# EAGLE library part OLED-128*64-30P (library moudle-new)
308020008
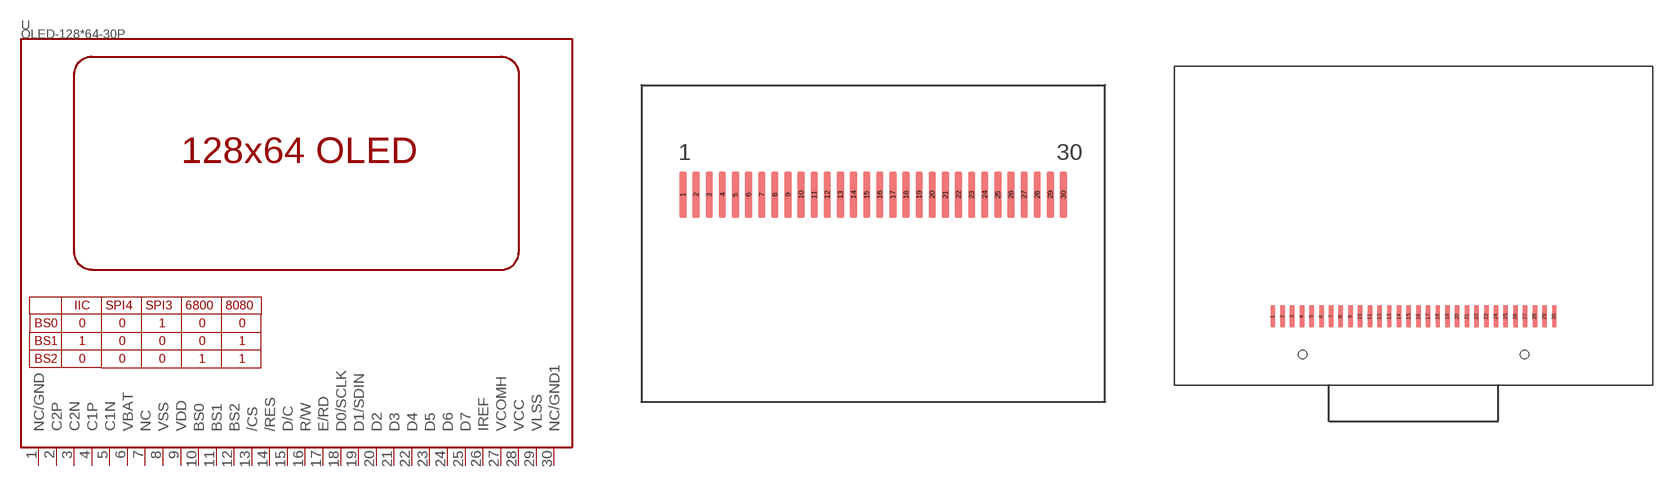
[diagram p1: symbol with the pads of OLED30P-0.7-24.74X16.9MM; footprints OLED30P-0.7-24.74X16.9MM, OLED30P-0.7]

Designator prefix U

## OLED-12864-30P  [OLED30P-0.7-24.74X16.9MM]
1  NC/GND  in
2  C2P  in
3  C2N  in
4  C1P  in
5  C1N  in
6  VBAT  in
7  NC  nc
8  VSS  pwr
9  VDD  pwr
10  BS0  in
11  BS1  in
12  BS2  in
13  /CS  in
14  /RES  in
15  D/C  in
16  R/W  in
17  E/RD  in
18  D0/SCLK
19  D1/SDIN
20  D2  in
21  D3  in
22  D4  in
23  D5  in
24  D6  in
25  D7  in
26  IREF  in
27  VCOMH  out
28  VCC  pwr
29  VLSS  pwr
30  NC/GND1  in

## OLED-12864-30P0.7  [OLED30P-0.7]
Pads as for OLED30P-0.7-24.74X16.9MM

## Footprint OLED30P-0.7-24.74X16.9MM (pad centres in mm)
smd 0.4 x 2.5: 1 -10.15,2.604; 2 -9.45,2.604; 3 -8.75,2.604; 4 -8.05,2.604; 5 -7.35,2.604; 6 -6.65,2.604; 7 -5.95,2.604; 8 -5.25,2.604; 9 -4.55,2.604; 10 -3.85,2.604; 11 -3.15,2.604; 12 -2.45,2.604; 13 -1.75,2.604; 14 -1.05,2.604; 15 -0.35,2.604; 16 0.35,2.604; 17 1.05,2.604; 18 1.75,2.604; 19 2.45,2.604; 20 3.15,2.604; 21 3.85,2.604; 22 4.55,2.604; 23 5.25,2.604; 24 5.95,2.604; 25 6.65,2.604; 26 7.35,2.604; 27 8.05,2.604; 28 8.75,2.604; 29 9.45,2.604; 30 10.15,2.604

## Footprint OLED30P-0.7 (pad centres in mm)
smd 0.35 x 1.6: 1 -10.15,-3.5; 2 -9.45,-3.5; 3 -8.75,-3.5; 4 -8.05,-3.5; 5 -7.35,-3.5; 6 -6.65,-3.5; 7 -5.95,-3.5; 8 -5.25,-3.5; 9 -4.55,-3.5; 10 -3.85,-3.5; 11 -3.15,-3.5; 12 -2.45,-3.5; 13 -1.75,-3.5; 14 -1.05,-3.5; 15 -0.35,-3.5; 16 0.35,-3.5; 17 1.05,-3.5; 18 1.75,-3.5; 19 2.45,-3.5; 20 3.15,-3.5; 21 3.85,-3.5; 22 4.55,-3.5; 23 5.25,-3.5; 24 5.95,-3.5; 25 6.65,-3.5; 26 7.35,-3.5; 27 8.05,-3.5; 28 8.75,-3.5; 29 9.45,-3.5; 30 10.15,-3.5